# Altium schematic symbol library mjindal2_schlib.SchLib: 2 symbols
Pins are listed as number, name and electrical type; pins without a type are passive.

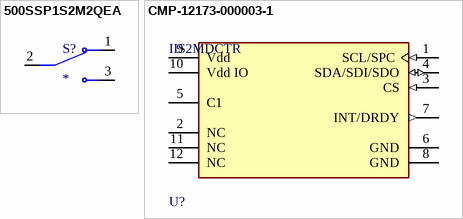
[diagram p0: symbols 500SSP1S2M2QEA to CMP-12173-000003-1]

## 500SSP1S2M2QEA
designator S?
Slide Switch SPDT Through Hole; MP: 500SSP1S2M2QEA; Package: None; Value: *; Price: None; Availability: Unavailable
footprint SW_500SSP1S2M2QEA
pins: 1 NC, 2 COM, 3 NO

## CMP-12173-000003-1
designator U?, comment IIS2MDCTR
SENSOR MR I2C/SPI 12LGA; Axis: X, Y, Z; Output Type: SPI; Sensing Method: Magnetoresistive; Resolution: 16b; Case/Package: LGA; Min Operating Temperature: -40°C; Packaging: Cut Tape; Number of Pins: 12; Max Operating Temperature: 85°C; RoHS Compliant: Yes
footprint FP-LGA-12-DM00170568-MFG
pins: 1 SCL/SPC (in), 2 NC, 3 CS (in), 4 SDA/SDI/SDO (io), 5 C1, 6 GND (power), 7 INT/DRDY (out), 8 GND (power), 9 Vdd (power), 10 Vdd IO (power), 11 NC, 12 NC